# EAGLE library part RFX2401C (library RFX2401C)
RF Front End 2.4GHz ZigBee/ISM RFeIC PA+LNA+SPDT Source: Datasheet <https://eu.mouser.com/datasheet/2/472/RFX2401C_204359B-1524606.pdf>
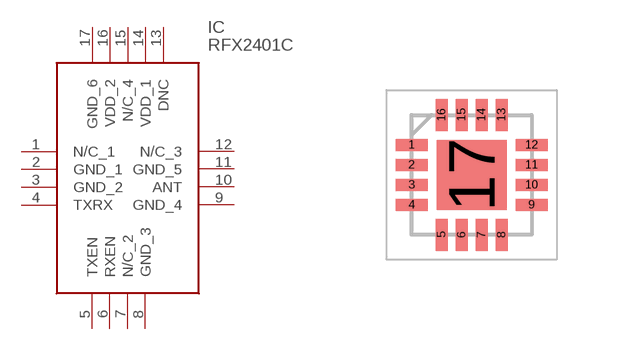
[diagram p0: symbol with the pads of QFN50P300X300X60-17N; footprint QFN50P300X300X60-17N]

Designator prefix IC

## RFX2401C (Arrow_Part_Number: RFX2401C; Arrow_Price-Stock: https://www.arrow.com/en/products/rfx2401c/skyworks-solutions?utm_currency=USD&region=nac; Description: RF Front End 2.4GHz ZigBee/ISM RFeIC PA+LNA+SPDT; Height: 0.6mm; Manufacturer_Name: Skyworks; Manufacturer_Part_Number: RFX2401C; Mouser_Part_Number: 477-RFX2401C; Mouser_Price-Stock: https://www.mouser.co.uk/ProductDetail/Skyworks-Solutions-Inc/RFX2401C?qs=dBWc1juS%252B3ydEXrKsuxQ7A%3D%3D)  [QFN50P300X300X60-17N]
1  N/C_1
2  GND_1
3  GND_2
4  TXRX
5  TXEN
6  RXEN
7  N/C_2
8  GND_3
9  GND_4
10  ANT
11  GND_5
12  N/C_3
13  DNC
14  VDD_1
15  N/C_4
16  VDD_2
17  GND_6

## Footprint QFN50P300X300X60-17N (pad centres in mm)
QFN16(H=0.6mm)
smd 0.8 x 0.3: 1 -1.5,0.75; 2 -1.5,0.25; 3 -1.5,-0.25; 4 -1.5,-0.75; 9 1.5,-0.75; 10 1.5,-0.25; 11 1.5,0.25; 12 1.5,0.75
smd 0.3 x 0.8: 5 -0.75,-1.5; 6 -0.25,-1.5; 7 0.25,-1.5; 8 0.75,-1.5; 13 0.75,1.5; 14 0.25,1.5; 15 -0.25,1.5; 16 -0.75,1.5
smd 1.75 x 1.75: 17 0,0